# EAGLE library part ADF411* (library NewSDR)
Analog Devices PLL Frequency Synthesizers
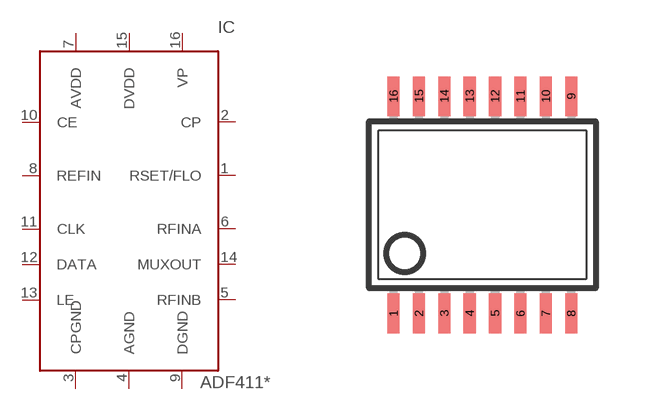
[diagram p215: symbol with the pads of TSSOP16; footprint TSSOP16]

Designator prefix IC

## ADF4110BRU (MHZ: 50/550), ADF4111BRU (MHZ: 80/1200), ADF4112BRU (MHZ: 100/3000), ADF4113BRU (MHZ: 200/3700)  [TSSOP16]
1  RSET/FLO
2  CP
3  CPGND
4  AGND
5  RFINB
6  RFINA
7  AVDD
8  REFIN
9  DGND
10  CE
11  CLK
12  DATA
13  LE
14  MUXOUT
15  DVDD
16  VP

## Footprint TSSOP16 (pad centres in mm)
TSSOP 16 Pin
smd 0.305 x 0.991: 1 -1.905,-2.718; 2 -1.27,-2.718; 3 -0.635,-2.718; 4 0,-2.718; 5 0.635,-2.718; 6 1.27,-2.718; 7 1.905,-2.718; 8 2.54,-2.718; 9 2.54,2.718; 10 1.905,2.718; 11 1.27,2.718; 12 0.635,2.718; 13 0,2.718; 14 -0.635,2.718; 15 -1.27,2.718; 16 -1.905,2.718